# EAGLE library part EA_P128-6N7 (library wolfi)
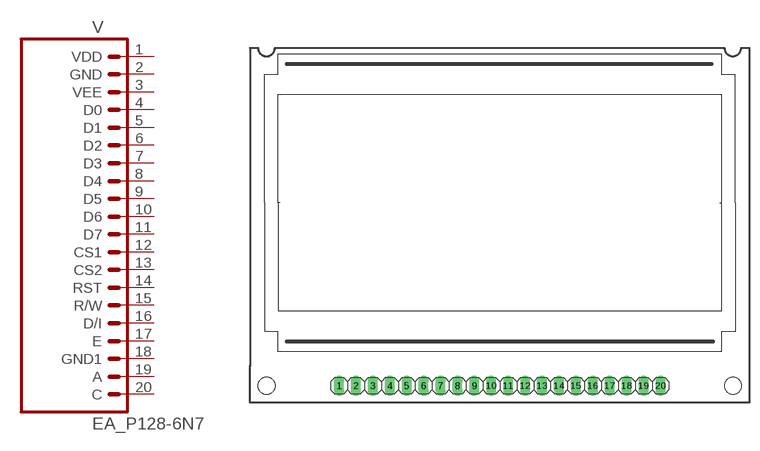
[diagram p12: symbol with the pads of EAP128-6N7; footprint EAP128-6N7]

Designator prefix V

## EA_P128-6N7LED  [EAP128-6N7]
1  VDD  pwr
2  GND  pwr
3  VEE  pwr
4  D0
5  D1
6  D2
7  D3
8  D4
9  D5
10  D6
11  D7
12  CS1  in
13  CS2  in
14  RST  in
15  R/W  in
16  D/I  in
17  E  in
18  GND1  pwr
19  A  pas
20  C  pas

## Footprint EAP128-6N7 (pad centres in mm)
drill 1.016 long: 1 0,0; 2 2.54,0; 3 5.08,0; 4 7.62,0; 5 10.16,0; 6 12.7,0; 7 15.24,0; 8 17.78,0; 9 20.32,0; 10 22.86,0; 11 25.4,0; 12 27.94,0; 13 30.48,0; 14 33.02,0; 15 35.56,0; 16 38.1,0; 17 40.64,0; 18 43.18,0; 19 45.72,0; 20 48.26,0
hole 2.54 at -10.88,0
hole 2.54 at 59.13,0